# EAGLE library part RM024 (library FSAE Electric (Alexander Ray's conflicted copy 2016-04-02))
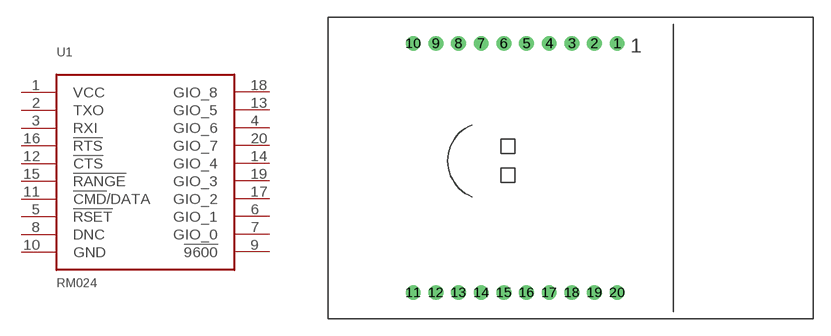
[diagram p38: symbol with the pads of RM024-TH; footprint RM024-TH]

Designator prefix U1

## RM024  [RM024-TH]
1  VCC
2  TXO
3  RXI
4  GIO_6
5  !RSET
6  GIO_1
7  GIO_0
8  DNC
9  !9600
10  GND
11  !CMD!/DATA
12  !CTS
13  GIO_5
14  GIO_4
15  !RANGE
16  !RTS
17  GIO_2
18  GIO_8
19  GIO_3
20  GIO_7

## Footprint RM024-TH (pad centres in mm)
drill 0.8: 1 9,11; 2 7,11; 3 5,11; 4 3,11; 5 1,11; 6 -1,11; 7 -3,11; 8 -5,11; 9 -7,11; 10 -9,11; 11 -9,-11; 12 -7,-11; 13 -5,-11; 14 -3,-11; 15 -1,-11; 16 1,-11; 17 3,-11; 18 5,-11; 19 7,-11; 20 9,-11